# Altium schematic symbol library KNX-RELAY-8CH_V1.2.SCHLIB: 15 symbols
Pins are listed as number, name and electrical type; pins without a type are passive.

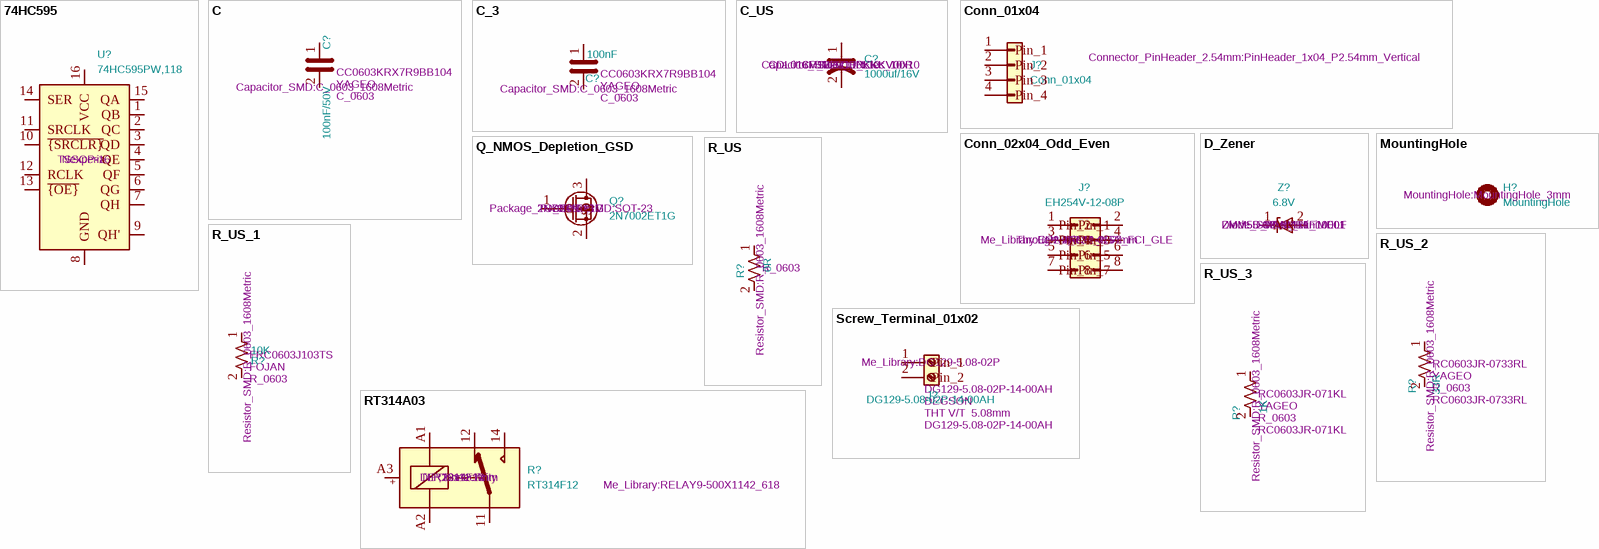
[diagram p0: symbols 74HC595 to Screw_Terminal_01x02]

## 74HC595
designator U?, comment MF: Nexperia  Package: TSSOP-16  (hidden comment: 74HC595PW,118)
MP: 74HC595PW,118; Footprint: Package_SO:TSSOP-16_4.4x5mm_P0.65mm; Value: 74HC595PW,118
footprint TSSOP-16_4.4x5mm_P0.65mm
pins: 1 QB, 2 QC, 3 QD, 4 QE, 5 QF, 6 QG, 7 QH, 8 GND, 9 QH', 10 ~{{SRCLR}}, 11 SRCLK, 12 RCLK, 13 ~{{OE}}, 14 SER, 15 QA, 16 VCC

## C
designator C?, comment MP: CC0603KRX7R9BB104  MF: YAGEO  Package: C_0603  Footprint: Capacitor_SMD:C_0603_1608Metric  (hidden comment: 100nF/50V)
Value: 100nF/50V
footprint C_0603_1608Metric
pins: 1, 2

## C_3
designator C?, comment MP: CC0603KRX7R9BB104  MF: YAGEO  Package: C_0603  Footprint: Capacitor_SMD:C_0603_1608Metric  (hidden comment: 100nF)
Value: 100nF
footprint C_0603_1608Metric
pins: 1, 2

## C_US
designator C?, comment MP: CDL016M102G10PKKKV00R  MF: SUSCON  Package: CP_Elec_10x10  Footprint: Capacitor_SMD:CP_Elec_10x10  (hidden comment: 1000uf/16V)
OZD: CDL016M102G10PKKKV00R; Value: 1000uf/16V
footprint CP_Elec_10x10
pins: 1, 2

## Conn_01x04
designator J?  Footprint: Connector_PinHeader_2.54mm:PinHeader_1x04_P2.54mm_Vertical  (hidden comment: Conn_01x04)
Value: Conn_01x04
footprint PinHeader_1x04_P2.54mm_Vertical
pins: 1 Pin_1, 2 Pin_2, 3 Pin_3, 4 Pin_4

## Conn_02x04_Odd_Even
designator J?, comment MF: XFCN  Package: Through Hole,P=2.54mm  Footprint: Me_Library:CON8_2X4_USZ_FCI_GLE  (hidden comment: EH254V-12-08P)
MP: EH254V-12-08P; Value: EH254V-12-08P
footprint CON8_2X4_USZ_FCI_GLE
pins: 1 Pin_1, 2 Pin_2, 3 Pin_3, 4 Pin_4, 5 Pin_5, 6 Pin_6, 7 Pin_7, 8 Pin_8

## D_Zener
designator Z?, comment MP: ZMM55-C6V8_R1_10001  MF: PANJIT  Package: D_MiniMELF  Footprint: Diode_SMD:D_MiniMELF  (hidden comment: 6.8V)
OZD: ZMM55-C6V8_R1_10001; Value: 6.8V
footprint D_MiniMELF
pins: 1 K, 2 A

## MountingHole
designator H?  Footprint: MountingHole:MountingHole_3mm  (hidden comment: MountingHole)
Value: MountingHole
footprint MountingHole_3mm

## Q_NMOS_Depletion_GSD
designator Q?, comment MF: onsemi  Package: SOT-23  Footprint: Package_TO_SOT_SMD:SOT-23  (hidden comment: 2N7002ET1G)
MP: 2N7002ET1G; OZD: 2N7002ET1G; Value: 2N7002ET1G
footprint SOT-23
pins: 1 G, 2 S, 3 D

## R_US
designator R?, comment Package: R_0603  Footprint: Resistor_SMD:R_0603_1608Metric  (hidden comment: 0R)
Value: 0R
footprint R_0603_1608Metric
pins: 1, 2

## R_US_1
designator R?, comment MP: FRC0603J103TS  MF: FOJAN  Package: R_0603  Footprint: Resistor_SMD:R_0603_1608Metric  (hidden comment: 10K)
Value: 10K
footprint R_0603_1608Metric
pins: 1, 2

## R_US_2
designator R?, comment MP: RC0603JR-0733RL  MF: YAGEO  Package: R_0603  Footprint: Resistor_SMD:R_0603_1608Metric  (hidden comment: 33R)
OZD: RC0603JR-0733RL; Value: 33R
footprint R_0603_1608Metric
pins: 1, 2

## R_US_3
designator R?, comment MP: RC0603JR-071KL  MF: YAGEO  Package: R_0603  Footprint: Resistor_SMD:R_0603_1608Metric  (hidden comment: 1K)
OZD: RC0603JR-071KL; Value: 1K
footprint R_0603_1608Metric
pins: 1, 2

## RT314A03
designator R?, comment MF: TE Connectivity  Package: DIP,29x12.7mm  Footprint: Me_Library:RELAY9-500X1142_618  (hidden comment: RT314F12)
MP: RT314F12; OZD: RT314F12; Value: RT314F12
footprint RELAY9-500X1142_618
pins: 11, 12, 14, A1, A2, A3
text: +

## Screw_Terminal_01x02
designator J?, comment MF: DEGSON  Package: THT V/T  5.08mm  Footprint: Me_Library:DG129-5.08-02P  (hidden comment: DG129-5.08-02P-14-00AH)
MP: DG129-5.08-02P-14-00AH; OZD: DG129-5.08-02P-14-00AH; Value: DG129-5.08-02P-14-00AH
footprint DG129-5.08-02P
pins: 1 Pin_1, 2 Pin_2